# Altium footprint library ESP32-S3-LR1121.PcbLib: 1 footprints
Each footprint in its own frame and in the unit in brackets; x right, y up, seen from the top. Pads: shape width x height; smd on the part's side, far side on the other; paste and mask are expansions set on the pad; w line width, h text height; cw(c..) or ccw(c..) is an arc to the next point about the centre after c.
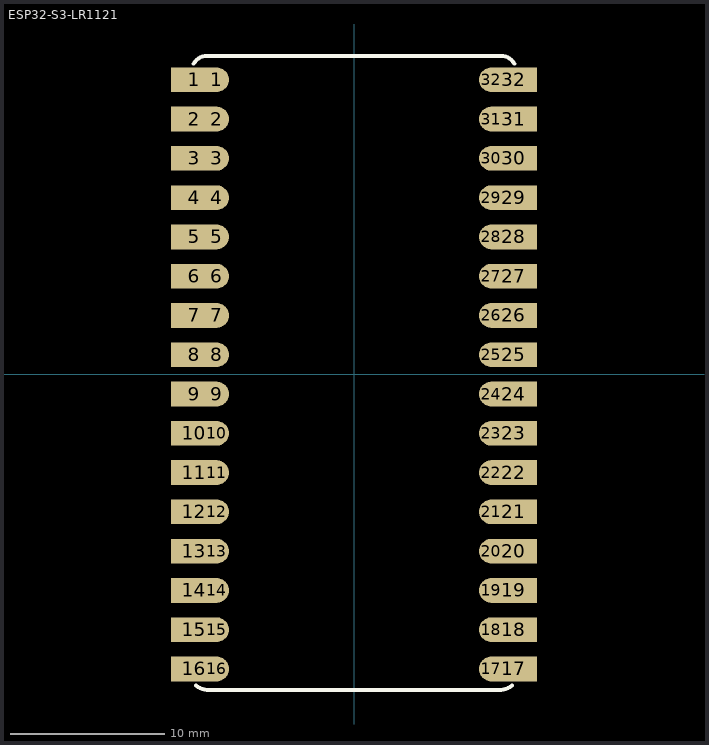
[diagram p0: the footprint, top view; thin cyan lines are the x and y axes]

## ESP32-S3-LR1121 [mm] "贴片麦克风 1.6V-3.6V 3.76x2.95x1.1mm"
pads (64):
  rect 3x1.6 smd: 1(-10.32,19.05) 2(-10.32,16.51) 3(-10.32,13.97) 4(-10.32,11.43) 5(-10.32,8.89) 6(-10.32,6.35) 7(-10.32,3.81) 8(-10.32,1.27) 9(-10.32,-1.27) 10(-10.32,-3.81) 11(-10.32,-6.35) 12(-10.32,-8.89) 13(-10.32,-11.43) 14(-10.32,-13.97) 15(-10.32,-16.51) 16(-10.32,-19.05) 17(10.32,-19.05) 18(10.32,-16.51) 19(10.32,-13.97) 20(10.32,-11.43) 21(10.32,-8.89) 22(10.32,-6.35) 23(10.32,-3.81) 24(10.32,-1.27) 25(10.32,1.27) 26(10.32,3.81) 27(10.32,6.35) 28(10.32,8.89) 29(10.32,11.43) 30(10.32,13.97) 31(10.32,16.51) 32(10.32,19.05)
  round 1.6 smd: 1(-8.89,19.05) 2(-8.89,16.51) 3(-8.89,13.97) 4(-8.89,11.43) 5(-8.89,8.89) 6(-8.89,6.35) 7(-8.89,3.81) 8(-8.89,1.27) 9(-8.89,-1.27) 10(-8.89,-3.81) 11(-8.89,-6.35) 12(-8.89,-8.89) 13(-8.89,-11.43) 14(-8.89,-13.97) 15(-8.89,-16.51) 16(-8.89,-19.05) 17(8.89,-19.05) 18(8.89,-16.51) 19(8.89,-13.97) 20(8.89,-11.43) 21(8.89,-8.89) 22(8.89,-6.35) 23(8.89,-3.81) 24(8.89,-1.27) 25(8.89,1.27) 26(8.89,3.81) 27(8.89,6.35) 28(8.89,8.89) 29(8.89,11.43) 30(8.89,13.97) 31(8.89,16.51) 32(8.89,19.05)
Top Overlay:
  lines w0.254: -10.374,20.086 cw(c-9.5,19.6) -9.5,20.6 9.5,20.6 cw(c9.5,19.6) 10.374,20.086 ; -10.207,-20.107 ccw(c-9.5,-19.4) -9.5,-20.4 9.5,-20.4 ccw(c9.5,-19.4) 10.207,-20.107
3D body: height 2.35, standoff -0.02, extent -10.509,-20.417 10.509,20.6